# EAGLE library part PSOC_3_48PIN_SSOP (library PSOC_SMBL)
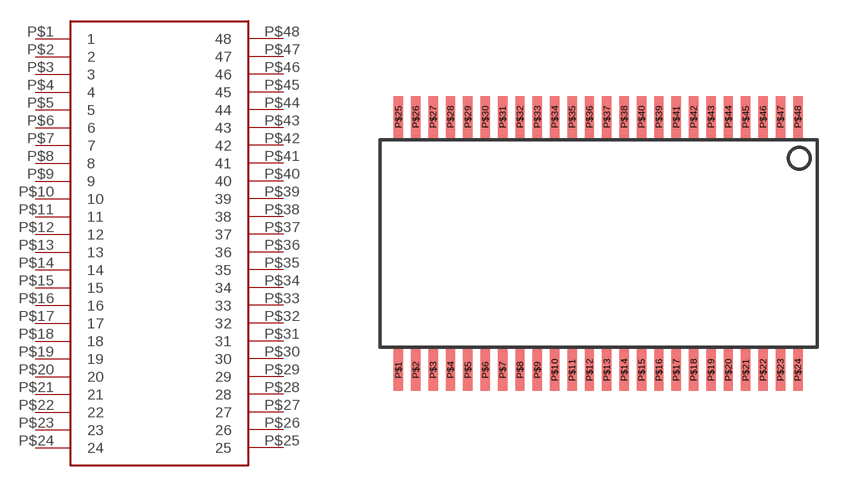
[diagram p0: symbol with the pads of PSOC_3_48PIN_SSOP; footprint PSOC_3_48PIN_SSOP]

Designator prefix -

## PSOC_3_48PIN_SSOP  [PSOC_3_48PIN_SSOP]
P$1  1
P$2  2
P$3  3
P$4  4
P$5  5
P$6  6
P$7  7
P$8  8
P$9  9
P$10  10
P$11  11
P$12  12
P$13  13
P$14  14
P$15  15
P$16  16
P$17  17
P$18  18
P$19  19
P$20  20
P$21  21
P$22  22
P$23  23
P$24  24
P$25  25
P$26  26
P$27  27
P$28  28
P$29  29
P$30  30
P$31  31
P$32  32
P$33  33
P$34  34
P$35  35
P$36  36
P$37  37
P$38  38
P$39  39
P$40  40
P$41  41
P$42  42
P$43  43
P$44  44
P$45  45
P$46  46
P$47  47
P$48  48

## Footprint PSOC_3_48PIN_SSOP (pad centres in mm)
smd 0.343 x 1.524: P$1 0.679,-0.827; P$2 1.314,-0.827; P$3 1.949,-0.827; P$4 2.584,-0.827; P$5 3.219,-0.827; P$6 3.854,-0.827; P$7 4.489,-0.827; P$8 5.124,-0.827; P$9 5.759,-0.827; P$10 6.394,-0.827; P$11 7.029,-0.827; P$12 7.664,-0.827; P$13 8.299,-0.827; P$14 8.934,-0.827; P$15 9.569,-0.827; P$16 10.204,-0.827; P$17 10.839,-0.827; P$18 11.474,-0.827; P$19 12.109,-0.827; P$20 12.744,-0.827; P$21 13.379,-0.827; P$22 14.014,-0.827; P$23 14.649,-0.827; P$24 15.284,-0.827; P$25 0.679,8.421; P$26 1.314,8.421; P$27 1.949,8.421; P$28 2.584,8.421; P$29 3.219,8.421; P$30 3.854,8.421; P$31 4.489,8.421; P$32 5.124,8.421; P$33 5.759,8.421; P$34 6.394,8.421; P$35 7.029,8.421; P$36 7.664,8.421; P$37 8.299,8.421; P$38 8.934,8.421; P$39 10.204,8.421; P$40 9.569,8.421; P$41 10.839,8.421; P$42 11.474,8.421; P$43 12.109,8.421; P$44 12.744,8.421; P$45 13.379,8.421; P$46 14.014,8.421; P$47 14.649,8.421; P$48 15.284,8.421